# Altium integrated library NEC Peripheral Floppy Disk Controller.IntLib: 3 symbols
Pins are listed as number, name and electrical type; pins without a type are passive.

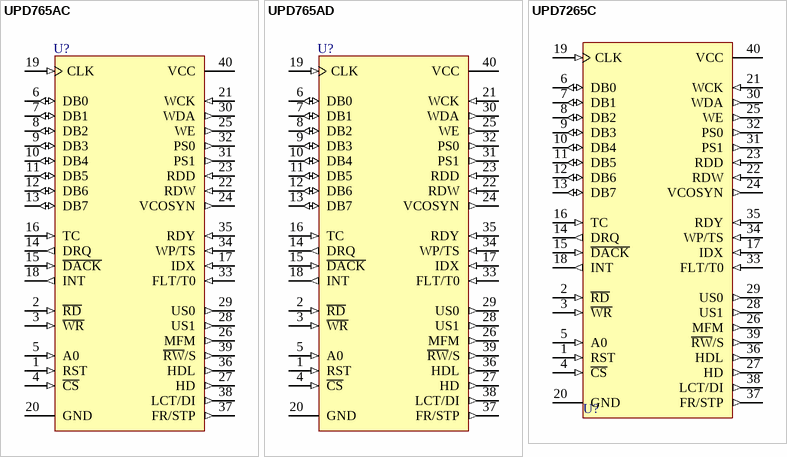
[diagram p0: symbols UPD765AC to UPD7265C]

## UPD765AC
designator U?
Single/Double Density Floppy Disk Controller; Published: 8-Jun-2000; LatestRevisionDate: 17-Jul-2002; LatestRevisionNote: Re-released for DXP Platform.; DatasheetVersion: 1984; PackageVersion: 1984; PackageReference: PDIP40; Publisher: Altium Limited; PackageDescription: DIP; 40 Leads; Row Spacing 15.24 mm; Pitch 2.54 mm; ComponentLink1Description: Manufacturer Link; ComponentLink1URL: http://www.necel.com/
footprint PDIP40 (DIP; 40 Leads; Row Spacing 15.24 mm; Pitch 2.54 mm)
pins: 1 RST (in), 2 ~{RD} (in), 3 ~{WR} (in), 4 ~{CS} (in), 5 A0 (in), 6 DB0 (io), 7 DB1 (io), 8 DB2 (io), 9 DB3 (io), 10 DB4 (io), 11 DB5 (io), 12 DB6 (io), 13 DB7 (io), 14 DRQ (out), 15 ~{DACK} (in), 16 TC (in), 17 IDX (in), 18 INT (out), 19 CLK (in), 20 GND (power), 21 WCK (in), 22 RDW (in), 23 RDD (in), 24 VCOSYN (out), 25 WE (out), 26 MFM (out), 27 HD (out), 28 US1 (out), 29 US0 (out), 30 WDA (out), 31 PS1 (out), 32 PS0 (out), 33 FLT/T0 (in), 34 WP/TS (in), 35 RDY (in), 36 HDL (out), 37 FR/STP (out), 38 LCT/DI (out), 39 ~{RW}/S (out), 40 VCC (power)

## UPD765AD
designator U?
Single/Double Density Floppy Disk Controller; Published: 8-Jun-2000; LatestRevisionDate: 17-Jul-2002; LatestRevisionNote: Re-released for DXP Platform.; DatasheetVersion: 1984; PackageVersion: 1984; PackageReference: CDIP40D; Publisher: Altium Limited; PackageDescription: DIP; 40 Leads; Row Spacing 15.24 mm; Pitch 2.54 mm; ComponentLink1Description: Manufacturer Link; ComponentLink1URL: http://www.necel.com/
footprint CDIP40D (DIP; 40 Leads; Row Spacing 15.24 mm; Pitch 2.54 mm)
pins: 1 RST (in), 2 ~{RD} (in), 3 ~{WR} (in), 4 ~{CS} (in), 5 A0 (in), 6 DB0 (io), 7 DB1 (io), 8 DB2 (io), 9 DB3 (io), 10 DB4 (io), 11 DB5 (io), 12 DB6 (io), 13 DB7 (io), 14 DRQ (out), 15 ~{DACK} (in), 16 TC (in), 17 IDX (in), 18 INT (out), 19 CLK (in), 20 GND (power), 21 WCK (in), 22 RDW (in), 23 RDD (in), 24 VCOSYN (out), 25 WE (out), 26 MFM (out), 27 HD (out), 28 US1 (out), 29 US0 (out), 30 WDA (out), 31 PS1 (out), 32 PS0 (out), 33 FLT/T0 (in), 34 WP/TS (in), 35 RDY (in), 36 HDL (out), 37 FR/STP (out), 38 LCT/DI (out), 39 ~{RW}/S (out), 40 VCC (power)

## UPD7265C
designator U?
Single/Double Density Floppy Disk Controller; Published: 8-Jun-2000; LatestRevisionDate: 17-Jul-2002; LatestRevisionNote: Re-released for DXP Platform.; DatasheetVersion: 1984; PackageVersion: 1984; PackageReference: PDIP40; Publisher: Altium Limited; PackageDescription: DIP; 40 Leads; Row Spacing 15.24 mm; Pitch 2.54 mm; ComponentLink1Description: Manufacturer Link; ComponentLink1URL: http://www.necel.com/
footprint PDIP40 (DIP; 40 Leads; Row Spacing 15.24 mm; Pitch 2.54 mm)
pins: 1 RST (in), 2 ~{RD} (in), 3 ~{WR} (in), 4 ~{CS} (in), 5 A0 (in), 6 DB0 (io), 7 DB1 (io), 8 DB2 (io), 9 DB3 (io), 10 DB4 (io), 11 DB5 (io), 12 DB6 (io), 13 DB7 (io), 14 DRQ (out), 15 ~{DACK} (in), 16 TC (in), 17 IDX (in), 18 INT (out), 19 CLK (in), 20 GND (power), 21 WCK (in), 22 RDW (in), 23 RDD (in), 24 VCOSYN (out), 25 WE (out), 26 MFM (out), 27 HD (out), 28 US1 (out), 29 US0 (out), 30 WDA (out), 31 PS1 (out), 32 PS0 (out), 33 FLT/T0 (in), 34 WP/TS (in), 35 RDY (in), 36 HDL (out), 37 FR/STP (out), 38 LCT/DI (out), 39 ~{RW}/S (out), 40 VCC (power)